# Altium integrated library WS-DISV 1.27 mm small compact SMD Dip Switch with top tape.IntLib: 9 symbols
Pins are listed as number, name and electrical type; pins without a type are passive.

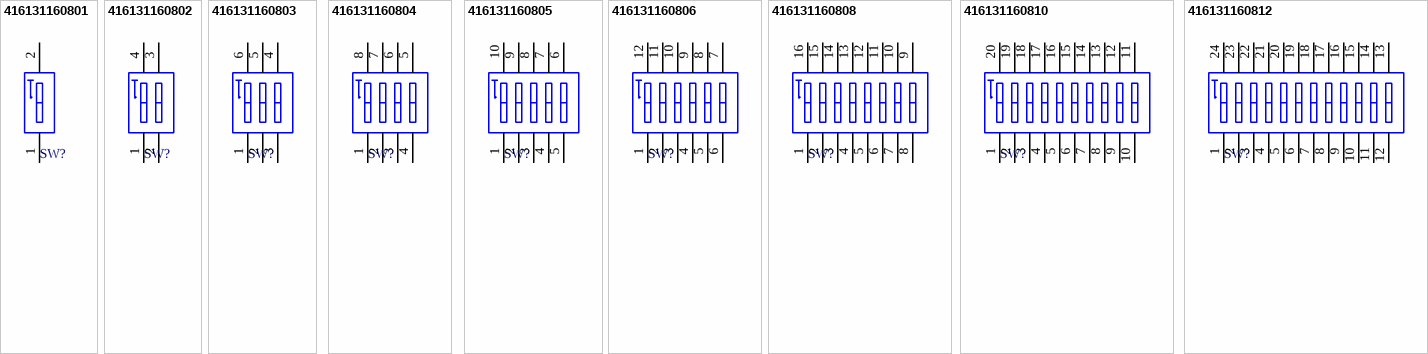
[diagram p0: symbols 416131160801 to 416131160812]

## 416131160801
designator SW?
WS-DISV 1.27 mm small compact SMD Dip Switch with top tape; PartNumber: 416131160801; NoPins: 02; PackageReference: 416131160801; ComponentLink1Description: Manufacturer URL; ComponentLink1URL: http://www.we-online.com; ComponentLink2Description: Datasheet; ComponentLink2URL: http://katalog.we-online.de/em/datasheet/4161311608xx.pdf
footprint 416131160801 (01p, 1.27mm Pitch, Horizontal, HP Type, SMT, flat Actuator, black, with Tape, T&R)
pins: 1, 2

## 416131160802
designator SW?
WS-DISV 1.27 mm small compact SMD Dip Switch with top tape; PartNumber: 416131160802; NoPins: 04; PackageReference: 416131160802; ComponentLink1Description: Manufacturer URL; ComponentLink1URL: http://www.we-online.com; ComponentLink2Description: Datasheet; ComponentLink2URL: http://katalog.we-online.de/em/datasheet/4161311608xx.pdf
footprint 416131160802 (02p, 1.27mm Pitch, Horizontal, HP Type, SMT, flat Actuator, black, with Tape, T&R)
pins: 1, 2, 3, 4

## 416131160803
designator SW?
WS-DISV 1.27 mm small compact SMD Dip Switch with top tape; PartNumber: 416131160803; NoPins: 06; PackageReference: 416131160803; ComponentLink1Description: Manufacturer URL; ComponentLink1URL: http://www.we-online.com; ComponentLink2Description: Datasheet; ComponentLink2URL: http://katalog.we-online.de/em/datasheet/4161311608xx.pdf
footprint 416131160803 (03p, 1.27mm Pitch, Horizontal, HP Type, SMT, flat Actuator, black, with Tape, T&R)
pins: 1, 2, 3, 4, 5, 6

## 416131160804
designator SW?
WS-DISV 1.27 mm small compact SMD Dip Switch with top tape; PartNumber: 416131160804; NoPins: 08; PackageReference: 416131160804; ComponentLink1Description: Manufacturer URL; ComponentLink1URL: http://www.we-online.com; ComponentLink2Description: Datasheet; ComponentLink2URL: http://katalog.we-online.de/em/datasheet/4161311608xx.pdf
footprint 416131160804 (04p, 1.27mm Pitch, Horizontal, HP Type, SMT, flat Actuator, black, with Tape, T&R)
pins: 1, 2, 3, 4, 5, 6, 7, 8

## 416131160805
designator SW?
WS-DISV 1.27 mm small compact SMD Dip Switch with top tape; PartNumber: 416131160805; NoPins: 10; PackageReference: 416131160805; ComponentLink1Description: Manufacturer URL; ComponentLink1URL: http://www.we-online.com; ComponentLink2Description: Datasheet; ComponentLink2URL: http://katalog.we-online.de/em/datasheet/4161311608xx.pdf
footprint 416131160805 (05p, 1.27mm Pitch, Horizontal, HP Type, SMT, flat Actuator, black, with Tape, T&R)
pins: 1, 2, 3, 4, 5, 6, 7, 8, 9, 10

## 416131160806
designator SW?
WS-DISV 1.27 mm small compact SMD Dip Switch with top tape; PartNumber: 416131160806; NoPins: 12; PackageReference: 416131160806; ComponentLink1Description: Manufacturer URL; ComponentLink1URL: http://www.we-online.com; ComponentLink2Description: Datasheet; ComponentLink2URL: http://katalog.we-online.de/em/datasheet/4161311608xx.pdf
footprint 416131160806 (06p, 1.27mm Pitch, Horizontal, HP Type, SMT, flat Actuator, black, with Tape, T&R)
pins: 1, 2, 3, 4, 5, 6, 7, 8, 9, 10, 11, 12

## 416131160808
designator SW?
WS-DISV 1.27 mm small compact SMD Dip Switch with top tape; PartNumber: 416131160808; NoPins: 16; PackageReference: 416131160808; ComponentLink1Description: Manufacturer URL; ComponentLink1URL: http://www.we-online.com; ComponentLink2Description: Datasheet; ComponentLink2URL: http://katalog.we-online.de/em/datasheet/4161311608xx.pdf
footprint 416131160808 (08p, 1.27mm Pitch, Horizontal, HP Type, SMT, flat Actuator, black, with Tape, T&R)
pins: 1, 2, 3, 4, 5, 6, 7, 8, 9, 10, 11, 12, 13, 14, 15, 16

## 416131160810
designator SW?
WS-DISV 1.27 mm small compact SMD Dip Switch with top tape; PartNumber: 416131160810; NoPins: 20; PackageReference: 416131160810; ComponentLink1Description: Manufacturer URL; ComponentLink1URL: http://www.we-online.com; ComponentLink2Description: Datasheet; ComponentLink2URL: http://katalog.we-online.de/em/datasheet/4161311608xx.pdf
footprint 416131160810 (10p, 1.27mm Pitch, Horizontal, HP Type, SMT, flat Actuator, black, with Tape, T&R)
pins: 1, 2, 3, 4, 5, 6, 7, 8, 9, 10, 11, 12, 13, 14, 15, 16, 17, 18, 19, 20

## 416131160812
designator SW?
WS-DISV 1.27 mm small compact SMD Dip Switch with top tape; PartNumber: 416131160812; NoPins: 24; PackageReference: 416131160812; ComponentLink1Description: Manufacturer URL; ComponentLink1URL: http://www.we-online.com; ComponentLink2Description: Datasheet; ComponentLink2URL: http://katalog.we-online.de/em/datasheet/4161311608xx.pdf
footprint 416131160812 (12p, 1.27mm Pitch, Horizontal, HP Type, SMT, flat Actuator, black, with Tape, T&R)
pins: 1, 2, 3, 4, 5, 6, 7, 8, 9, 10, 11, 12, 13, 14, 15, 16, 17, 18, 19, 20, 21, 22, 23, 24